# EAGLE library part CONNECTOR-HEADER-8P (library OPL5)
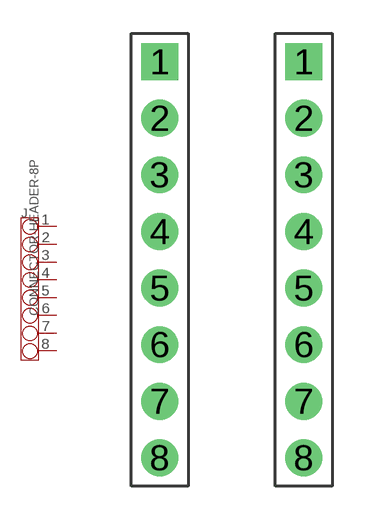
[diagram p13: symbol with the pads of 1X8P-2.54-2.54-11.6-3.0-BALCK-MALE; footprints 1X8P-2.54-2.54-11.6-3.0-BALCK-MALE, 1X8P-2.54-8.5+2.5-12.3-BLUE-FEMALE]

Designator prefix J

## CONNECTOR-HEADER-8P-3461050P1  [1X8P-2.54-2.54-11.6-3.0-BALCK-MALE]
1  1  out
2  2  out
3  3  out
4  4  out
5  5  out
6  6  out
7  7  out
8  8  out

## CONNECTOR-HEADER-8P-3461260P1  [1X8P-2.54-8.5+2.5-12.3-BLUE-FEMALE]
Pads as for 1X8P-2.54-2.54-11.6-3.0-BALCK-MALE

## CONNECTOR-HEADER-8P-3460290P1  [1X8P-2.54-8.5-BLACK-FEMALE]
Pads as for 1X8P-2.54-2.54-11.6-3.0-BALCK-MALE

## CONNECTOR-HEADER-8P-3460550P1  [1X8P-2.54-8.5-WHITE-FEMALE]
Pads as for 1X8P-2.54-2.54-11.6-3.0-BALCK-MALE

## CONNECTOR-HEADER-8P-3460590P1  [1X8P-2.54-8.5-YELLOW-FEMALE]
Pads as for 1X8P-2.54-2.54-11.6-3.0-BALCK-MALE

## Footprint 1X8P-2.54-2.54-11.6-3.0-BALCK-MALE (pad centres in mm)
drill 0.889 pad 1.651 square: 1 0,8.89
drill 0.889 pad 1.651 round: 2 0,6.35; 3 0,3.81; 4 0,1.27; 5 0,-1.27; 6 0,-3.81; 7 0,-6.35; 8 0,-8.89

## Footprint 1X8P-2.54-8.5+2.5-12.3-BLUE-FEMALE (pad centres in mm)
drill 0.889 pad 1.651 square: 1 0,8.89
drill 0.889 pad 1.651 round: 2 0,6.35; 3 0,3.81; 4 0,1.27; 5 0,-1.27; 6 0,-3.81; 7 0,-6.35; 8 0,-8.89

## Footprint 1X8P-2.54-8.5-BLACK-FEMALE (pad centres in mm)
drill 0.889 pad 1.651 square: 1 0,8.89
drill 0.889 pad 1.651 round: 2 0,6.35; 3 0,3.81; 4 0,1.27; 5 0,-1.27; 6 0,-3.81; 7 0,-6.35; 8 0,-8.89

## Footprint 1X8P-2.54-8.5-WHITE-FEMALE (pad centres in mm)
drill 0.889 pad 1.651 square: 1 0,8.89
drill 0.889 pad 1.651 round: 2 0,6.35; 3 0,3.81; 4 0,1.27; 5 0,-1.27; 6 0,-3.81; 7 0,-6.35; 8 0,-8.89

## Footprint 1X8P-2.54-8.5-YELLOW-FEMALE (pad centres in mm)
drill 0.889 pad 1.651 square: 1 0,8.89
drill 0.889 pad 1.651 round: 2 0,6.35; 3 0,3.81; 4 0,1.27; 5 0,-1.27; 6 0,-3.81; 7 0,-6.35; 8 0,-8.89